# EAGLE library part LM25XX (library BaseApp)
LM2576 or LM2596 Digikey Number :- __ LM2576D2TR4-5GOSCT-ND__ or __LM2596SX-3.3/NOPBCT-ND__
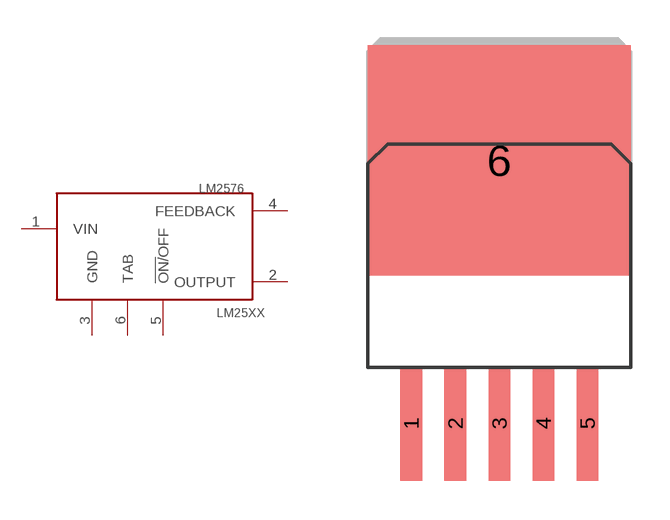
[diagram p2: symbol with the pads of TO-263-6(5LEADS+1TAB); footprint TO-263-6(5LEADS+1TAB)]

Designator prefix LM2576

## LM25XX-2576  [TO-263-6(5LEADS+1TAB)]
1  VIN
2  OUTPUT
3  GND
4  FEEDBACK
5  !ON/!OFF
6  TAB

## LM25XX'-2596-3.3V (DIGIKEY: LM2596SX-3.3/NOPBCT-ND; PRICE_PER_UNIT: 4.53)  [TO-263-6(5LEADS+1TAB)]
Pads as for TO-263-6(5LEADS+1TAB)

## LM25XX-2596-5V (DIGIKEY: LM2596SX-5.0/NOPBCT-ND; PRICE_PER_UNIT: 4.53)  [TO-263-6(5LEADS+1TAB)]
Pads as for TO-263-6(5LEADS+1TAB)

## Footprint TO-263-6(5LEADS+1TAB) (pad centres in mm)
smd 0.838 x 4.445: 1 -3.404,-5.715; 2 -1.702,-5.715; 3 0,-5.715; 4 1.702,-5.715; 5 3.404,-5.715
smd 10.16 x 8.89: 6 0,4.445